# Altium schematic symbol library Crystal.SchLib: 1 symbol
Pins are listed as number, name and electrical type; pins without a type are passive.

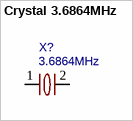
[diagram p0: symbol Crystal 3.6864MHz]

## Crystal 3.6864MHz
designator X?, comment 3.6864MHz
3.6864MHz晶体; Manufacturer: ABRACON; Manufacturer Part: ABL-3.6864MHZ-B2; Contributor: lcsc; nameAlias: Value; Supplier: LCSC; Supplier Part: C1669849; JLCPCB Part Class: Extended Part; spicePre: X; spiceSymbolName: ABL-3.6864MHZ-B2
footprint HC-49S_L11.5-W5.0-P4.88
pins: 1, 2 GND